# Altium footprint library IC_Texas_Instruments_AM4376BZDN100_eec_0.PcbLib: 1 footprints
Each footprint in its own frame and in the unit in brackets; x right, y up, seen from the top. Pads: shape width x height; smd on the part's side, far side on the other; paste and mask are expansions set on the pad; w line width, h text height; cw(c..) or ccw(c..) is an arc to the next point about the centre after c.
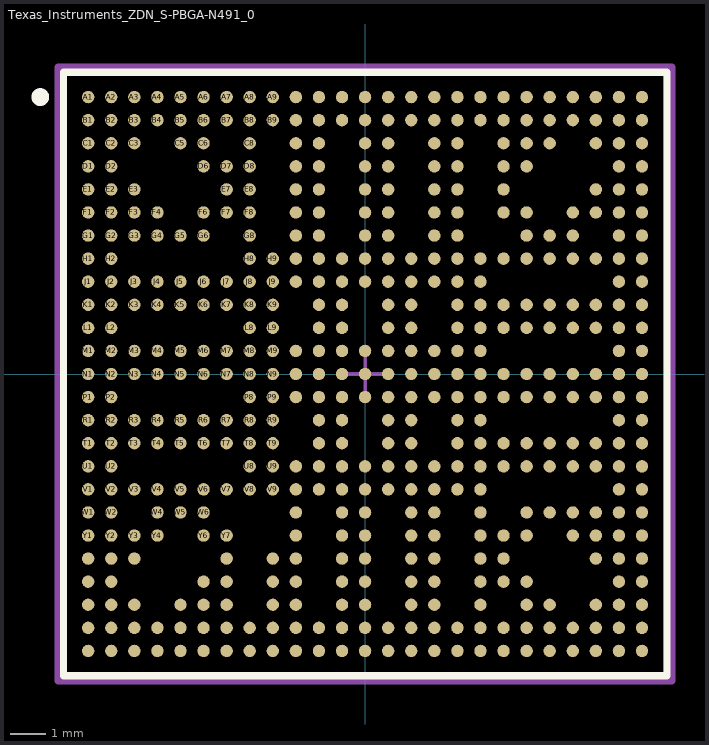
[diagram p0: the footprint, top view; thin cyan lines are the x and y axes]

## Texas_Instruments_ZDN_S-PBGA-N491_0 [mm]
pads (491):
  round 0.349 smd paste+0 mask+0: A1(-7.8,7.8) A2(-7.15,7.8) A3(-6.5,7.8) A4(-5.85,7.8) A5(-5.2,7.8) A6(-4.55,7.8) A7(-3.9,7.8) A8(-3.25,7.8) A9(-2.6,7.8) A10(-1.95,7.8) A11(-1.3,7.8) A12(-0.65,7.8) A13(0,7.8) A14(0.65,7.8) A15(1.3,7.8) A16(1.95,7.8) A17(2.6,7.8) A18(3.25,7.8) A19(3.9,7.8) A20(4.55,7.8) A21(5.2,7.8) A22(5.85,7.8) A23(6.5,7.8) A24(7.15,7.8) A25(7.8,7.8) AA1(-7.8,-5.2) AA2(-7.15,-5.2) AA3(-6.5,-5.2) AA7(-3.9,-5.2) AA9(-2.6,-5.2) AA10(-1.95,-5.2) AA12(-0.65,-5.2) AA13(0,-5.2) AA15(1.3,-5.2) AA16(1.95,-5.2) AA18(3.25,-5.2) AA19(3.9,-5.2) AA23(6.5,-5.2) AA24(7.15,-5.2) AA25(7.8,-5.2) AB1(-7.8,-5.85) AB2(-7.15,-5.85) AB6(-4.55,-5.85) AB7(-3.9,-5.85) AB9(-2.6,-5.85) AB10(-1.95,-5.85) AB12(-0.65,-5.85) AB13(0,-5.85) AB15(1.3,-5.85) AB16(1.95,-5.85) AB18(3.25,-5.85) AB19(3.9,-5.85) AB20(4.55,-5.85) AB24(7.15,-5.85) AB25(7.8,-5.85) AC1(-7.8,-6.5) AC2(-7.15,-6.5) AC3(-6.5,-6.5) AC5(-5.2,-6.5) AC6(-4.55,-6.5) AC7(-3.9,-6.5) AC9(-2.6,-6.5) AC10(-1.95,-6.5) AC12(-0.65,-6.5) AC13(0,-6.5) AC15(1.3,-6.5) AC16(1.95,-6.5) AC18(3.25,-6.5) AC20(4.55,-6.5) AC21(5.2,-6.5) AC23(6.5,-6.5) AC24(7.15,-6.5) AC25(7.8,-6.5) AD1(-7.8,-7.15) AD2(-7.15,-7.15) AD3(-6.5,-7.15) AD4(-5.85,-7.15) AD5(-5.2,-7.15) AD6(-4.55,-7.15) AD7(-3.9,-7.15) AD8(-3.25,-7.15) AD9(-2.6,-7.15) AD10(-1.95,-7.15) AD11(-1.3,-7.15) AD12(-0.65,-7.15) AD13(0,-7.15) AD14(0.65,-7.15) AD15(1.3,-7.15) AD16(1.95,-7.15) AD17(2.6,-7.15) AD18(3.25,-7.15) AD19(3.9,-7.15) AD20(4.55,-7.15) AD21(5.2,-7.15) AD22(5.85,-7.15) AD23(6.5,-7.15) AD24(7.15,-7.15) AD25(7.8,-7.15) AE1(-7.8,-7.8) AE2(-7.15,-7.8) AE3(-6.5,-7.8) AE4(-5.85,-7.8) AE5(-5.2,-7.8) AE6(-4.55,-7.8) AE7(-3.9,-7.8) AE8(-3.25,-7.8) AE9(-2.6,-7.8) AE10(-1.95,-7.8) AE11(-1.3,-7.8) AE12(-0.65,-7.8) AE13(0,-7.8) AE14(0.65,-7.8) AE15(1.3,-7.8) AE16(1.95,-7.8) AE17(2.6,-7.8) AE18(3.25,-7.8) AE19(3.9,-7.8) AE20(4.55,-7.8) AE21(5.2,-7.8) AE22(5.85,-7.8) AE23(6.5,-7.8) AE24(7.15,-7.8) AE25(7.8,-7.8) B1(-7.8,7.15) B2(-7.15,7.15) B3(-6.5,7.15) B4(-5.85,7.15) B5(-5.2,7.15) B6(-4.55,7.15) B7(-3.9,7.15) B8(-3.25,7.15) B9(-2.6,7.15) B10(-1.95,7.15) B11(-1.3,7.15) B12(-0.65,7.15) B13(0,7.15) B14(0.65,7.15) B15(1.3,7.15) B16(1.95,7.15) B17(2.6,7.15) B18(3.25,7.15) B19(3.9,7.15) B20(4.55,7.15) B21(5.2,7.15) B22(5.85,7.15) B23(6.5,7.15) B24(7.15,7.15) B25(7.8,7.15) C1(-7.8,6.5) C2(-7.15,6.5) C3(-6.5,6.5) C5(-5.2,6.5) C6(-4.55,6.5) C8(-3.25,6.5) C10(-1.95,6.5) C11(-1.3,6.5) C13(0,6.5) C14(0.65,6.5) C16(1.95,6.5) C17(2.6,6.5) C19(3.9,6.5) C20(4.55,6.5) C21(5.2,6.5) C23(6.5,6.5) C24(7.15,6.5) C25(7.8,6.5) D1(-7.8,5.85) D2(-7.15,5.85) D6(-4.55,5.85) D7(-3.9,5.85) D8(-3.25,5.85) D10(-1.95,5.85) D11(-1.3,5.85) D13(0,5.85) D14(0.65,5.85) D16(1.95,5.85) D17(2.6,5.85) D19(3.9,5.85) D20(4.55,5.85) D24(7.15,5.85) D25(7.8,5.85) E1(-7.8,5.2) E2(-7.15,5.2) E3(-6.5,5.2) E7(-3.9,5.2) E8(-3.25,5.2) E10(-1.95,5.2) E11(-1.3,5.2) E13(0,5.2) E14(0.65,5.2) E16(1.95,5.2) E17(2.6,5.2) E19(3.9,5.2) E23(6.5,5.2) E24(7.15,5.2) E25(7.8,5.2) F1(-7.8,4.55) F2(-7.15,4.55) F3(-6.5,4.55) F4(-5.85,4.55) F6(-4.55,4.55) F7(-3.9,4.55) F8(-3.25,4.55) F10(-1.95,4.55) F11(-1.3,4.55) F13(0,4.55) F14(0.65,4.55) F16(1.95,4.55) F17(2.6,4.55) F19(3.9,4.55) F20(4.55,4.55) F22(5.85,4.55) F23(6.5,4.55) F24(7.15,4.55) F25(7.8,4.55) G1(-7.8,3.9) G2(-7.15,3.9) G3(-6.5,3.9) G4(-5.85,3.9) G5(-5.2,3.9) G6(-4.55,3.9) G8(-3.25,3.9) G10(-1.95,3.9) G11(-1.3,3.9) G13(0,3.9) G14(0.65,3.9) G16(1.95,3.9) G17(2.6,3.9) G20(4.55,3.9) G21(5.2,3.9) G22(5.85,3.9) G24(7.15,3.9) G25(7.8,3.9) H1(-7.8,3.25) H2(-7.15,3.25) H8(-3.25,3.25) H9(-2.6,3.25) H10(-1.95,3.25) H11(-1.3,3.25) H12(-0.65,3.25) H13(0,3.25) H14(0.65,3.25) H15(1.3,3.25) H16(1.95,3.25) H17(2.6,3.25) H18(3.25,3.25) H19(3.9,3.25) H20(4.55,3.25) H21(5.2,3.25) H22(5.85,3.25) H23(6.5,3.25) H24(7.15,3.25) H25(7.8,3.25) J1(-7.8,2.6) J2(-7.15,2.6) J3(-6.5,2.6) J4(-5.85,2.6) J5(-5.2,2.6) J6(-4.55,2.6) J7(-3.9,2.6) J8(-3.25,2.6) J9(-2.6,2.6) J10(-1.95,2.6) J11(-1.3,2.6) J12(-0.65,2.6) J13(0,2.6) J14(0.65,2.6) J15(1.3,2.6) J16(1.95,2.6) J17(2.6,2.6) J18(3.25,2.6) J24(7.15,2.6) J25(7.8,2.6) K1(-7.8,1.95) K2(-7.15,1.95) K3(-6.5,1.95) K4(-5.85,1.95) K5(-5.2,1.95) K6(-4.55,1.95) K7(-3.9,1.95) K8(-3.25,1.95) K9(-2.6,1.95) K11(-1.3,1.95) K12(-0.65,1.95) K14(0.65,1.95) K15(1.3,1.95) K17(2.6,1.95) K18(3.25,1.95) K19(3.9,1.95) K20(4.55,1.95) K21(5.2,1.95) K22(5.85,1.95) K23(6.5,1.95) K24(7.15,1.95) K25(7.8,1.95) L1(-7.8,1.3) L2(-7.15,1.3) L8(-3.25,1.3) L9(-2.6,1.3) L11(-1.3,1.3) L12(-0.65,1.3) L14(0.65,1.3) L15(1.3,1.3) L17(2.6,1.3) L18(3.25,1.3) L19(3.9,1.3) L20(4.55,1.3) L21(5.2,1.3) L22(5.85,1.3) L23(6.5,1.3) L24(7.15,1.3) L25(7.8,1.3) M1(-7.8,0.65) M2(-7.15,0.65) M3(-6.5,0.65) M4(-5.85,0.65) M5(-5.2,0.65) M6(-4.55,0.65) M7(-3.9,0.65) M8(-3.25,0.65) M9(-2.6,0.65) M10(-1.95,0.65) M11(-1.3,0.65) M12(-0.65,0.65) M13(0,0.65) M14(0.65,0.65) M15(1.3,0.65) M16(1.95,0.65) M17(2.6,0.65) M18(3.25,0.65) M24(7.15,0.65) M25(7.8,0.65) N1(-7.8,0) N2(-7.15,0) N3(-6.5,0) N4(-5.85,0) N5(-5.2,0) N6(-4.55,0) N7(-3.9,0) N8(-3.25,0) N9(-2.6,0) N10(-1.95,0) N11(-1.3,0) N12(-0.65,0) N13(0,0) N14(0.65,0) N15(1.3,0) N16(1.95,0) N17(2.6,0) N18(3.25,0) N19(3.9,0) N20(4.55,0) N21(5.2,0) N22(5.85,0) N23(6.5,0) N24(7.15,0) N25(7.8,0) P1(-7.8,-0.65) P2(-7.15,-0.65) P8(-3.25,-0.65) P9(-2.6,-0.65) P10(-1.95,-0.65) P11(-1.3,-0.65) P12(-0.65,-0.65) P13(0,-0.65) P14(0.65,-0.65) P15(1.3,-0.65) P16(1.95,-0.65) P17(2.6,-0.65) P18(3.25,-0.65) P19(3.9,-0.65) P20(4.55,-0.65) P21(5.2,-0.65) P22(5.85,-0.65) P23(6.5,-0.65) P24(7.15,-0.65) P25(7.8,-0.65) R1(-7.8,-1.3) R2(-7.15,-1.3) R3(-6.5,-1.3) R4(-5.85,-1.3) R5(-5.2,-1.3) R6(-4.55,-1.3) R7(-3.9,-1.3) R8(-3.25,-1.3) R9(-2.6,-1.3) R11(-1.3,-1.3) R12(-0.65,-1.3) R14(0.65,-1.3) R15(1.3,-1.3) R17(2.6,-1.3) R18(3.25,-1.3) R24(7.15,-1.3) R25(7.8,-1.3) T1(-7.8,-1.95) T2(-7.15,-1.95) T3(-6.5,-1.95) T4(-5.85,-1.95) T5(-5.2,-1.95) T6(-4.55,-1.95) T7(-3.9,-1.95) T8(-3.25,-1.95) T9(-2.6,-1.95) T11(-1.3,-1.95) T12(-0.65,-1.95) T14(0.65,-1.95) T15(1.3,-1.95) T17(2.6,-1.95) T18(3.25,-1.95) T19(3.9,-1.95) T20(4.55,-1.95) T21(5.2,-1.95) T22(5.85,-1.95) T23(6.5,-1.95) T24(7.15,-1.95) T25(7.8,-1.95) U1(-7.8,-2.6) U2(-7.15,-2.6) U8(-3.25,-2.6) U9(-2.6,-2.6) U10(-1.95,-2.6) U11(-1.3,-2.6) U12(-0.65,-2.6) U13(0,-2.6) U14(0.65,-2.6) U15(1.3,-2.6) U16(1.95,-2.6) U17(2.6,-2.6) U18(3.25,-2.6) U19(3.9,-2.6) U20(4.55,-2.6) U21(5.2,-2.6) U22(5.85,-2.6) U23(6.5,-2.6) U24(7.15,-2.6) U25(7.8,-2.6) V1(-7.8,-3.25) V2(-7.15,-3.25) V3(-6.5,-3.25) V4(-5.85,-3.25) V5(-5.2,-3.25) V6(-4.55,-3.25) V7(-3.9,-3.25) V8(-3.25,-3.25) V9(-2.6,-3.25) V10(-1.95,-3.25) V11(-1.3,-3.25) V12(-0.65,-3.25) V13(0,-3.25) V14(0.65,-3.25) V15(1.3,-3.25) V16(1.95,-3.25) V17(2.6,-3.25) V18(3.25,-3.25) V24(7.15,-3.25) V25(7.8,-3.25) W1(-7.8,-3.9) W2(-7.15,-3.9) W4(-5.85,-3.9) W5(-5.2,-3.9) W6(-4.55,-3.9) W10(-1.95,-3.9) W12(-0.65,-3.9) W13(0,-3.9) W15(1.3,-3.9) W16(1.95,-3.9) W18(3.25,-3.9) W20(4.55,-3.9) W21(5.2,-3.9) W22(5.85,-3.9) W23(6.5,-3.9) W24(7.15,-3.9) W25(7.8,-3.9) Y1(-7.8,-4.55) Y2(-7.15,-4.55) Y3(-6.5,-4.55) Y4(-5.85,-4.55) Y6(-4.55,-4.55) Y7(-3.9,-4.55) Y10(-1.95,-4.55) Y12(-0.65,-4.55) Y13(0,-4.55) Y15(1.3,-4.55) Y16(1.95,-4.55) Y18(3.25,-4.55) Y19(3.9,-4.55) Y20(4.55,-4.55) Y22(5.85,-4.55) Y23(6.5,-4.55) Y24(7.15,-4.55) Y25(7.8,-4.55)
Top Overlay:
  circle w0.25: c-9.15,7.8 r0.125
  lines w0.2: -8.5,-8.5 8.5,-8.5 8.5,8.5 -8.5,8.5 -8.5,-8.5
Mechanical 10:
  lines w0.2: -8.65,-8.65 8.65,-8.65 8.65,8.65 -8.65,8.65 -8.65,-8.65
  text ".Designator" at 0,0 h1
Mechanical 12:
  lines w0.2: -8.5,-8.5 8.5,-8.5 8.5,8.5 -8.5,8.5 -8.5,-8.5
Mechanical 15:
  lines w0.1: -0.5,0 0.5,0 ; 0,-0.5 0,0.5
  lines w0.2: -8.65,-8.65 8.65,-8.65 8.65,8.65 -8.65,8.65 -8.65,-8.65
3D body "IC_Texas_Instruments_AM4376BZDN100_eec.STEP": height 0.25, standoff 0, extent -8.65,-8.65 8.65,8.65